# EAGLE library part ACS712 (library lib_stankus)
Allegro ACS712 hall effect sensor Farnell #1329623, #1329624, #1651975
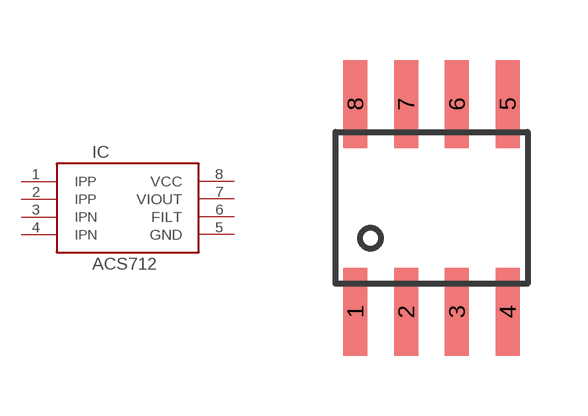
[diagram p63: symbol with the pads of SOIC8; footprint SOIC8]

Designator prefix IC

## ACS712-SOIC8  [SOIC8]
1  IPP  pas
2  IPP  pas
3  IPN  pas
4  IPN  pas
5  GND  pas
6  FILT  pas
7  VIOUT  pas
8  VCC  pas

## Footprint SOIC8 (pad centres in mm)
SOIC8
smd 0.6 x 2.2: 1 -1.905,-2.6; 2 -0.635,-2.6; 3 0.635,-2.6; 4 1.905,-2.6; 5 1.905,2.6; 6 0.635,2.6; 7 -0.635,2.6; 8 -1.905,2.6